# Altium schematic symbol library SCH - RF - SYNTHESIZER - TI LMX2572.SCHLIB: 1 symbol
Pins are listed as number, name and electrical type; pins without a type are passive.

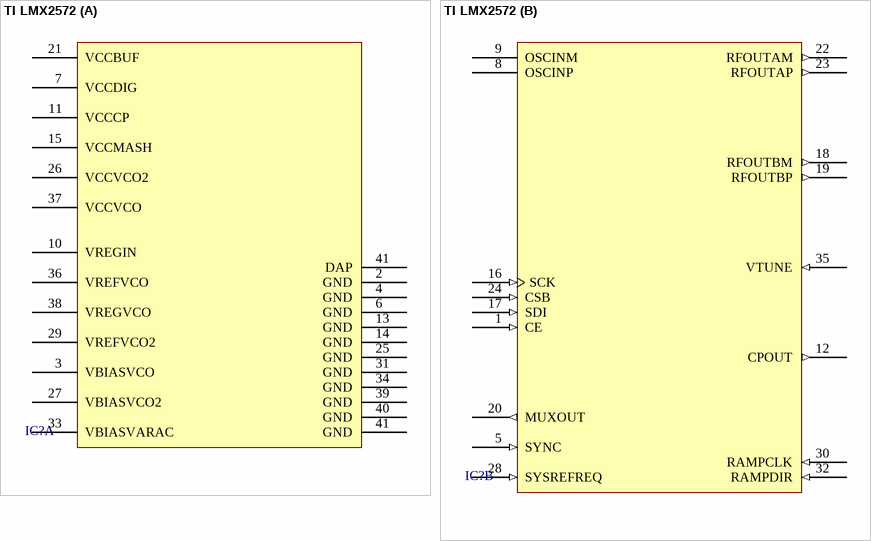
[diagram p0: symbol TI LMX2572]

## TI LMX2572
designator IC?
part A pins: 2 GND (power), 3 VBIASVCO (power), 4 GND (power), 6 GND (power), 7 VCCDIG (power), 10 VREGIN (power), 11 VCCCP (power), 13 GND (power), 14 GND (power), 15 VCCMASH (power), 21 VCCBUF, 25 GND (power), 26 VCCVCO2 (power), 27 VBIASVCO2 (power), 29 VREFVCO2 (power), 31 GND (power), 33 VBIASVARAC (power), 34 GND (power), 36 VREFVCO (power), 37 VCCVCO (power), 38 VREGVCO (power), 39 GND (power), 40 GND (power), 41 GND (power), 41 DAP (power)
part B pins: 1 CE (in), 5 SYNC (in), 8 OSCINP (power), 9 OSCINM (power), 12 CPOUT (out), 16 SCK (in), 17 SDI (in), 18 RFOUTBM (out), 19 RFOUTBP (out), 20 MUXOUT (out), 22 RFOUTAM (out), 23 RFOUTAP (out), 24 CSB (in), 28 SYSREFREQ (in), 30 RAMPCLK (in), 32 RAMPDIR (in), 35 VTUNE (in)